# Altium footprint library Mini-Rambo_OLD.PcbLib: 52 footprints (part 3 of 4)
Each footprint in its own frame and in the unit in brackets; x right, y up, seen from the top. Pads: shape width x height; smd on the part's side, far side on the other; paste and mask are expansions set on the pad; w line width, h text height; cw(c..) or ccw(c..) is an arc to the next point about the centre after c.
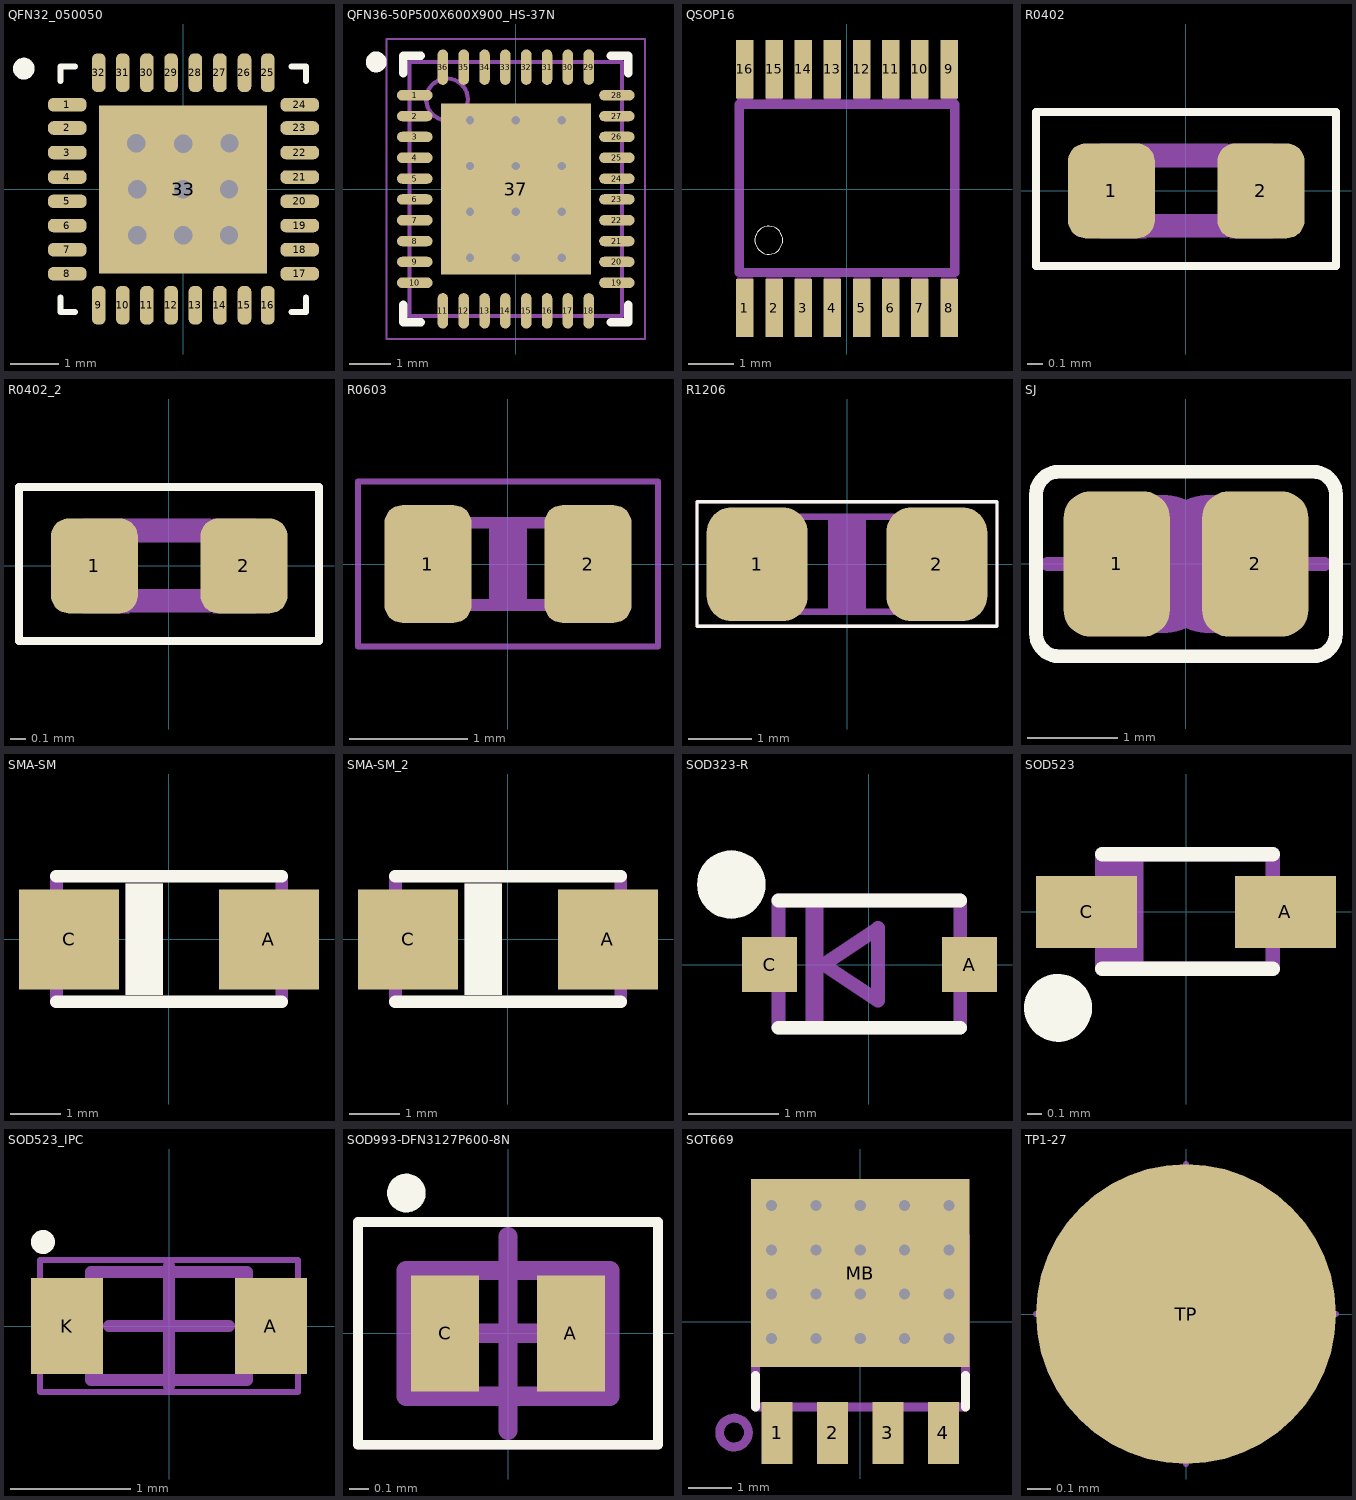
[diagram p2: the footprints below, top view; thin cyan lines are the x and y axes]

## QFN32_050050 [mm]
pads (33):
  rrect80% 0.8x0.28 smd mask+0.05: 1(-2.4,1.753) 2(-2.4,1.27) 3(-2.4,0.762) 4(-2.4,0.254) 5(-2.4,-0.25) 6(-2.4,-0.75) 7(-2.4,-1.25) 8(-2.4,-1.75) 17(2.413,-1.75) 18(2.413,-1.25) 19(2.413,-0.75) 20(2.413,-0.25) 21(2.413,0.254) 22(2.413,0.762) 23(2.413,1.27) 24(2.413,1.753)
  rrect80% 0.28x0.8 smd mask+0.05: 9(-1.75,-2.4) 10(-1.25,-2.4) 11(-0.75,-2.4) 12(-0.25,-2.4) 13(0.254,-2.4) 14(0.762,-2.4) 15(1.27,-2.4) 16(1.753,-2.4) 25(1.753,2.413) 26(1.27,2.413) 27(0.762,2.413) 28(0.254,2.413) 29(-0.25,2.413) 30(-0.75,2.413) 31(-1.25,2.413) 32(-1.75,2.413)
  rect 3.48x3.48 smd paste-4 mask-4: 33(0,0)
via 0.95,-0.95 diameter 0.762 hole 0.381
via 0,-0.95 diameter 0.762 hole 0.381
via -0.95,-0.95 diameter 0.762 hole 0.381
via -0.95,0 diameter 0.762 hole 0.381
via -0.975,0.95 diameter 0.762 hole 0.381
via 0,0.945 diameter 0.762 hole 0.381
via 0.959,0.957 diameter 0.762 hole 0.381
via 0.95,0 diameter 0.762 hole 0.381
via 0,0 diameter 0.762 hole 0.381
Top Overlay:
  circle w0.25: c-3.3,2.5 r0.1
  lines w0.127: -2.54,-2.24 -2.54,-2.54 -2.24,-2.54 ; -2.54,2.24 -2.54,2.54 -2.24,2.54 ; 2.24,-2.54 2.54,-2.54 2.54,-2.24 ; 2.24,2.54 2.54,2.54 2.54,2.24
Top Paste:
  region: -1.675,-1.675 -1.675,-1.05 -1.375,-1.05 -1.05,-1.375 -1.05,-1.675
  region: -0.125,-1.675 -0.825,-1.675 -0.825,-1.35 -0.575,-1.1 -0.35,-1.1 -0.125,-1.325
  region: -0.825,-0.575 -0.825,-0.375 -0.6,-0.15 -0.35,-0.15 -0.15,-0.35 -0.15,-0.6 -0.375,-0.825 -0.575,-0.825
  region: -1.675,-0.825 -1.675,-0.125 -1.348,-0.125 -1.1,-0.377 -1.1,-0.584 -1.337,-0.825
  region: 0.825,-1.675 0.125,-1.675 0.125,-1.348 0.377,-1.1 0.584,-1.1 0.825,-1.337
  region: 1.675,-0.125 1.675,-0.825 1.348,-0.825 1.1,-0.573 1.1,-0.366 1.337,-0.125
  region: 1.675,-1.675 1.05,-1.675 1.05,-1.375 1.375,-1.05 1.675,-1.05
  region: 0.125,-0.575 0.125,-0.375 0.35,-0.15 0.6,-0.15 0.8,-0.35 0.8,-0.6 0.575,-0.825 0.375,-0.825
  region: -0.125,0.575 -0.125,0.375 -0.35,0.15 -0.6,0.15 -0.8,0.35 -0.8,0.6 -0.575,0.825 -0.375,0.825
  region: -1.675,1.675 -1.05,1.675 -1.05,1.375 -1.375,1.05 -1.675,1.05
  region: -1.675,0.125 -1.675,0.825 -1.348,0.825 -1.1,0.573 -1.1,0.366 -1.337,0.125
  region: -0.825,1.675 -0.125,1.675 -0.125,1.348 -0.377,1.1 -0.584,1.1 -0.825,1.337
  region: 1.675,0.825 1.675,0.125 1.348,0.125 1.1,0.377 1.1,0.584 1.337,0.825
  region: 0.825,0.575 0.825,0.375 0.6,0.15 0.35,0.15 0.15,0.35 0.15,0.6 0.375,0.825 0.575,0.825
  region: 0.125,1.675 0.825,1.675 0.825,1.35 0.575,1.1 0.35,1.1 0.125,1.325
  region: 1.675,1.675 1.675,1.05 1.375,1.05 1.05,1.375 1.05,1.675
Top Solder:
  drawing of 37 lines, arcs and shapes, not listed
3D body: height 1, standoff 0, extent -2.84,-2.84 2.857,2.857

## QFN36-50P500X600X900_HS-37N [mm] "QFN, 36-Leads, Body 5.00x6.00mm, Pitch 0.50mm, Thermal Pad 3.60x4.10mm, IPC Medium Density"
height 9
pads (37):
  oval 0.85x0.25 smd: 1(-2.425,2.25) 2(-2.425,1.75) 3(-2.425,1.25) 4(-2.425,0.75) 5(-2.425,0.25) 6(-2.425,-0.25) 7(-2.425,-0.75) 8(-2.425,-1.25) 9(-2.425,-1.75) 10(-2.425,-2.25) 19(2.425,-2.25) 20(2.425,-1.75) 21(2.425,-1.25) 22(2.425,-0.75) 23(2.425,-0.25) 24(2.425,0.25) 25(2.425,0.75) 26(2.425,1.25) 27(2.425,1.75) 28(2.425,2.25)
  oval 0.25x0.85 smd: 11(-1.75,-2.925) 12(-1.25,-2.925) 13(-0.75,-2.925) 14(-0.25,-2.925) 15(0.25,-2.925) 16(0.75,-2.925) 17(1.25,-2.925) 18(1.75,-2.925) 29(1.75,2.925) 30(1.25,2.925) 31(0.75,2.925) 32(0.25,2.925) 33(-0.25,2.925) 34(-0.75,2.925) 35(-1.25,2.925) 36(-1.75,2.925)
  rect 3.6x4.1 smd: 37(0,0)
via -1.1,-0.55 diameter 0.635 hole 0.2
via -1.1,-1.65 diameter 0.635 hole 0.2
via -1.1,1.65 diameter 0.635 hole 0.2
via -1.1,0.55 diameter 0.635 hole 0.2
via 0,-1.65 diameter 0.635 hole 0.2
via 1.1,-1.65 diameter 0.635 hole 0.2
via 0,-0.55 diameter 0.635 hole 0.2
via 1.1,-0.55 diameter 0.635 hole 0.2
via 0,1.65 diameter 0.635 hole 0.2
via 0,0.55 diameter 0.635 hole 0.2
via 1.1,0.55 diameter 0.635 hole 0.2
via 1.1,1.65 diameter 0.635 hole 0.2
Top Overlay:
  circle w0.25: c-3.35,3.05 r0.125
  lines w0.2: -2.7,-2.775 -2.7,-3.2 -2.275,-3.2 ; -2.7,2.775 -2.7,3.2 -2.275,3.2 ; 2.275,-3.2 2.7,-3.2 2.7,-2.775 ; 2.275,3.2 2.7,3.2 2.7,2.775
Mechanical 13:
  circle w0.1: c-1.65,2.15 r0.5
  lines w0.1: -2.55,-3.05 -2.55,3.05 2.55,3.05 2.55,-3.05 -2.55,-3.05
Mechanical 15:
  lines w0.05: -3.1,-3.6 -3.1,3.6 3.1,3.6 3.1,-3.6 -3.1,-3.6
  lines w0.1: -0.5,0 0.5,0 ; 0,-0.5 0,0.5
3D body: height 0.9, standoff 0.05, extent -2.55,-3.05 2.55,3.05

## QSOP16 [mil]
pads (16):
  rect 15x50 smd: 1(-87.5,-102.36) 2(-62.5,-102.36) 3(-37.5,-102.36) 4(-12.5,-102.36) 5(13,-102.36) 6(38,-102.36) 7(63,-102.36) 8(88,-102.36) 9(88,103) 10(63,103) 11(38,103) 12(13,103) 13(-12.5,103) 14(-37.5,103) 15(-62.5,103) 16(-87.5,103)
Top Overlay:
  circle w0: c-67,-44 r12
Top Solder:
  rectangle: -96,-129 -79,-76
  rectangle: -94,-125 -81,-79
  rectangle: -71,-129 -54,-76
  rectangle: -69,-125 -56,-79
  rectangle: -46,-129 -29,-76
  rectangle: -44,-125 -31,-79
  rectangle: -21,-129 -4,-76
  rectangle: -19,-125 -6,-79
  rectangle: 4,-129 21,-76
  rectangle: 6,-125 19,-79
  rectangle: 29,-129 46,-76
  rectangle: 31,-125 44,-79
  rectangle: 54,-129 71,-76
  rectangle: 56,-125 69,-79
  rectangle: 79,-129 96,-76
  rectangle: 81,-125 94,-79
  region: 96,129 79,129 79,76 96,76
  region: 94,125 81,125 81,79 94,79
  region: 71,129 54,129 54,76 71,76
  region: 69,125 56,125 56,79 69,79
  region: 46,129 29,129 29,76 46,76
  region: 44,125 31,125 31,79 44,79
  region: 21,129 4,129 4,76 21,76
  region: 19,125 6,125 6,79 19,79
  region: -4,129 -21,129 -21,76 -4,76
  region: -6,125 -19,125 -19,79 -6,79
  region: -29,129 -46,129 -46,76 -29,76
  region: -31,125 -44,125 -44,79 -31,79
  region: -54,129 -71,129 -71,76 -54,76
  region: -56,125 -69,125 -69,79 -56,79
  region: -79,129 -96,129 -96,76 -79,76
  region: -81,125 -94,125 -94,79 -81,79
Mechanical 8:
  rectangle: -94.5,-122.05 -80.5,-76
  rectangle: -69.5,-122.05 -55.5,-76
  rectangle: -44.5,-122.05 -30.5,-76
  rectangle: -19.5,-122.05 -5.5,-76
  rectangle: 6,-122.05 20,-76
  rectangle: 31,-122.05 45,-76
  rectangle: 56,-122.05 70,-76
  rectangle: 81,-122.05 95,-76
  region: 95,123 81,123 81,76 95,76
  region: 70,123 56,123 56,76 70,76
  region: 45,123 31,123 31,76 45,76
  region: 20,123 6,123 6,76 20,76
  region: -5.5,123 -19.5,123 -19.5,76 -5.5,76
  region: -30.5,123 -44.5,123 -44.5,76 -30.5,76
  region: -55.5,123 -69.5,123 -69.5,76 -55.5,76
  region: -80.5,123 -94.5,123 -94.5,76 -80.5,76
  lines w8: -92.49,-71.8 93,-71.8 93,-55.12 93,73 -92.49,73 -92.49,-71.8
3D body: height 9.84, standoff 0, extent -95,75 -80,125
3D body: height 9.84, standoff 0, extent -70,75 -55,125
3D body: height 9.84, standoff 0, extent -45,75 -30,125
3D body: height 9.84, standoff 0, extent -20,75 -5,125
3D body: height 9.84, standoff 0, extent 5,75 20,125
3D body: height 9.84, standoff 0, extent 30,75 45,125
3D body: height 9.84, standoff 0, extent 55,75 70,125
3D body: height 9.84, standoff 0, extent 80,75 95,125
3D body: height 9.84, standoff 0, extent 80,-125 95,-75
3D body: height 9.84, standoff 0, extent 55,-125 70,-75
3D body: height 9.84, standoff 0, extent 30,-125 45,-75
3D body: height 9.84, standoff 0, extent 5,-125 20,-75
3D body: height 9.84, standoff 0, extent -20,-125 -5,-75
3D body: height 9.84, standoff 0, extent -45,-125 -30,-75
3D body: height 9.84, standoff 0, extent -70,-125 -55,-75
3D body: height 9.84, standoff 0, extent -95,-125 -80,-75
3D body: height 64.96, standoff 0, extent -95,-75 95,75

## R0402 [mil]
pads (2):
  rrect40% 22x24 smd: 1(-18.9,0) 2(19,0)
Top Overlay:
  lines w2: -37.99,-19.02 38,-19.02 38,20 -37.99,20 -37.99,-19.02
Mechanical 8:
  rectangle: 11,-12 22,12
  rectangle: -21.81,-12 -10,12
  lines w6: -9.65,-8.82 10,-8.82 ; -9.65,9 10,9
Mechanical 15:
  lines w2: -37.99,-19.02 -37.99,20 38,20 38,-19.02 -37.99,-19.02
3D body: height 13.78, standoff 0, extent -20,-10 20,10

## R0402_2 [mil]
pads (2):
  rrect40% 22x24 smd: 1(-18.9,0) 2(19,0)
Top Overlay:
  lines w2: -37.99,-19.02 38,-19.02 38,20 -37.99,20 -37.99,-19.02
Mechanical 8:
  rectangle: 11,-12 22,12
  rectangle: -21.81,-12 -10,12
  lines w6: -9.65,-8.82 10,-8.82 ; -9.65,9 10,9
Mechanical 15:
  lines w2: -37.99,-19.02 -37.99,20 38,20 38,-19.02 -37.99,-19.02
3D body: height 13.78, standoff 0, extent -20,-10 20,10

## R0603 [mm]
pads (2):
  rrect40% 0.74x1 smd: 1(-0.68,0) 2(0.68,0)
Mechanical 6:
  rectangle: -0.16,-0.299 0.16,0.301
Mechanical 8:
  rectangle: 0.45,-0.4 0.8,0.4
  rectangle: -0.8,-0.4 -0.45,0.4
  lines w0.1: -0.45,0.35 0.45,0.35
  lines w0.102: -0.45,-0.35 0.45,-0.35
Mechanical 15:
  lines w0.051: -1.275,-0.7 -1.275,0.7 1.275,0.7 1.275,-0.7 -1.275,-0.7
3D body: height 0.8, standoff 0, extent -0.8,-0.4 0.8,0.4

## R1206 [mil]
pads (2):
  rrect50% 63x71 smd: 1(-55.98,0) 2(56,0)
Top Overlay:
  lines w2: -93.5,-38.7 93.5,-38.7 93.5,39 -93.5,39 -93.5,-38.7
Mechanical 6:
  rectangle: -11.82,-27.56 11.99,28
Mechanical 8:
  rectangle: 31.99,-31.49 60.99,31.5
  rectangle: -61.06,-31.49 -32.06,31.5
  lines w3.94: -40.35,29.53 35.65,29.53 ; -34.66,-29.53 41.34,-29.53
Mechanical 15:
  lines w2: -93.5,-38.7 -93.5,39 93.5,39 93.5,-38.7 -93.5,-38.7
3D body: height 23.62, standoff 0, extent -61.02,-31.5 61.02,31.5

## SJ [mil]
pads (2):
  rrect50% 46x63 smd: 1(-30,0) 2(30,0)
Top Overlay:
  lines w6: -65,-30 ccw(c-55,-30) -55,-40 55,-40 ccw(c55,-30) 65,-30 65,30 ccw(c55,30) 55,40 -55,40 ccw(c-55,30) -65,30 -65,-30
Top Solder:
  rectangle: -18.7,-34.45 16.73,36
Mechanical 8:
  lines w6: -60,0 -40,0 ; 40,0 60,0
  lines w50: -10,-5 cw(c-10,0) -10,5 ; 10,-5 ccw(c10,0) 10,5
3D body: height 3.94, standoff 0, extent -53.15,-30.51 -6.89,31.5
3D body: height 3.94, standoff 0, extent 6.89,-31.5 53.15,30.51

## SMA-SM [mil]
pads (2):
  rect 79x79 smd: A(79,0) C(-78.74,0)
Top Overlay:
  rectangle: -34.06,-43.89 -4.53,44.01
  lines w10: -88.58,-49.21 89,-49.21 ; -88.58,50 89,50
Mechanical 8:
  rectangle: -34.06,-43.89 -4.53,44.01
  rectangle: -110.24,-31.48 -93.7,32.01
  rectangle: 94,-32.47 111,32.01
  lines w10: -88.58,-49.21 -88.58,50 ; 89,-49.21 89,50
3D body: height 78.74, standoff 0, extent -105,-40 105,40
3D body: height 116.14, standoff 0, extent -93.58,-54.21 94,55

## SMA-SM_2 [mil]
pads (2):
  rect 79x79 smd: A(79,0) C(-78.74,0)
Top Overlay:
  rectangle: -34.06,-43.9 -4.53,44
  lines w10: -88.58,-49.21 89,-49.21 ; -88.58,50 89,50
Mechanical 8:
  rectangle: -34.06,-43.9 -4.53,44
  rectangle: -110.24,-31.5 -93.7,32
  rectangle: 94,-32.48 111,32
  lines w10: -88.58,-49.21 -88.58,50 ; 89,-49.21 89,50
3D body: height 78.74, standoff 0, extent -105,-40 105,40
3D body: height 116.14, standoff 0, extent -93.58,-54.21 94,55

## SOD323-R [mil]
pads (3):
  rect 24x24 smd: A(44,0) C(-43.31,0)
  round 30 on Top Overlay: ""(-60,35)
Top Overlay:
  lines w6: -39.37,-27.56 40,-27.56 ; -39.37,28 40,28
Mechanical 8:
  rectangle: -27.56,-27.56 -19.69,28
  lines w6: -39.37,-27.56 40,-27.56 40,28 -39.37,28 -39.37,-27.56 ; -19.69,0 4,16 4,-15.75 -19.69,0
3D body: height 27.56, standoff 0, extent -42.37,-30.56 43,31
3D body: height 15.75, standoff 0, extent -50,-5 -35,5
3D body: height 15.75, standoff 0, extent 35,-5 50,5

## SOD523 [mil]
pads (2):
  rect 28x20 smd: A(27.56,0) C(-27.56,0)
Top Overlay:
  circle w10: c-35.43,-26.57 r4.4
  lines w4: -23.23,-15.75 24,-15.75 ; -23.23,16 24,16
Mechanical 8:
  rectangle: -29.53,-6.69 -21.26,7
  rectangle: 22,-6.69 30,7
  rectangle: -23.23,-15.75 -11.81,16
  lines w4: -23.23,-15.75 24,-15.75 24,16 -23.23,16 -23.23,-15.75
3D body: height 27.56, standoff 0, extent -23.21,-15.73 23.98,15.98
3D body: height 11.81, standoff 0, extent -29.53,-4.92 29.53,4.92

## SOD523_IPC [mm]
height 0.65
pads (2):
  rect 0.6x0.8 smd: A(0.85,0) K(-0.85,0)
Top Overlay:
  circle w0.1: c-1.05,0.7 r0.05
Mechanical 13:
  lines w0.1: -0.65,-0.45 0.65,-0.45 0.65,0.45 -0.65,0.45 -0.65,-0.45
Mechanical 15:
  lines w0.05: -1.075,-0.55 1.075,-0.55 1.075,0.55 -1.075,0.55 -1.075,-0.55
  lines w0.1: -0.5,0 0.5,0 ; 0,-0.5 0,0.5
3D body: height 0.65, standoff 0, extent -0.65,-0.45 0.65,0.45

## SOD993-DFN3127P600-8N [mm] "DSN1006-2 (SOD993)"
height 0.3
pads (2):
  rect 0.35x0.6 smd paste-0.05 mask+0.05: A(0.325,0) C(-0.325,0)
Top Overlay:
  circle w0.1: c-0.525,0.725 r0.05
  lines w0.05: -0.775,-0.575 0.775,-0.575 0.775,0.575 -0.775,0.575 -0.775,-0.575
Mechanical 13:
  lines w0.1: -0.525,-0.325 -0.525,0.325 0.525,0.325 0.525,-0.325 -0.525,-0.325
Mechanical 15:
  lines w0.05: -0.775,-0.575 -0.775,0.575 0.775,0.575 0.775,-0.575 -0.775,-0.575
  lines w0.1: -0.5,0 0.5,0 ; 0,-0.5 0,0.5
3D body: height 0.3, standoff 0, extent -0.525,-0.325 0.525,0.325

## SOT669 [mil]
pads (5):
  rect 28x56 smd: 1(-75,-100.39) 2(-25,-100.39) 3(25,-100.39) 4(75,-100.39)
  rect 197x170 smd: MB(0,44)
via 0,65 diameter 22 hole 10
via 0,105 diameter 22 hole 10
via 0,25 diameter 22 hole 10
via 0,-15 diameter 22 hole 10
via -40,-15 diameter 22 hole 10
via -80,-15 diameter 22 hole 10
via -80,25 diameter 22 hole 10
via -40,25 diameter 22 hole 10
via -40,65 diameter 22 hole 10
via -80,65 diameter 22 hole 10
via -80,105 diameter 22 hole 10
via -40,105 diameter 22 hole 10
via 40,105 diameter 22 hole 10
via 80,105 diameter 22 hole 10
via 80,65 diameter 22 hole 10
via 40,65 diameter 22 hole 10
via 40,25 diameter 22 hole 10
via 80,25 diameter 22 hole 10
via 80,-15 diameter 22 hole 10
via 40,-15 diameter 22 hole 10
Top Overlay:
  lines w8: -94.49,-76.77 -94.49,-48.23 ; 95,-76.77 95,-48.23
Top Paste:
  region: 9,-37.8 9,-32.68 13,-29.13 27,-29.13 30,-32.68 30,-37.8
  region: -29.13,-37.8 -29.13,-32.68 -25.59,-29.13 -11.42,-29.13 -7.87,-32.68 -7.87,-37.8
  region: 60,-28.74 51,-28.74 47,-33.07 47,-37.8 60,-37.8
  region: -59.45,-28.74 -49.61,-28.74 -45.28,-33.07 -45.28,-37.8 -59.45,-37.8
  region: 45,128 67,128 67,104 64,100 49,100 45,104
  region: 8,128 30,128 30,104 26,100 12,100 8,104
  region: -30.32,128 -7.87,128 -7.87,103 -11.42,100 -26.38,100 -30.32,104
  region: -68.11,128 -45.67,128 -45.67,103 -49.21,100 -64.17,100 -68.11,104
  region: 87,128 97,128 97,76 87,76
  region: -96.06,128 -85.04,128 -85.04,76 -96.06,76
Mechanical 8:
  circle w8: c-113.98,-100 r13
  rectangle: 64.08,-110.24 87.08,-85.63
  rectangle: 66.08,-122.05 85.08,-80.71
  rectangle: 14.08,-110.24 37.08,-85.63
  rectangle: 16.08,-122.05 35.08,-80.71
  rectangle: -36.73,-110.24 -13.11,-85.63
  rectangle: -34.77,-122.05 -15.08,-80.71
  rectangle: -86.73,-110.24 -63.11,-85.63
  rectangle: -84.77,-122.05 -65.08,-80.71
  lines w8: -94.49,77 -94.49,-76.77 95,-76.77 95,77
3D body: height 11.81, standoff 0, extent 65,-120 85,-75
3D body: height 11.81, standoff 0, extent 15,-120 35,-75
3D body: height 11.81, standoff 0, extent -35,-120 -15,-75
3D body: height 11.81, standoff 0, extent -85,-120 -65,-75
3D body: height 11.81, standoff 0, extent -96.06,-37.8 97,128
3D body: height 43.31, standoff 0, extent -94.47,-76.75 94.98,76.98

## TP1-27 [mil]
pads (1):
  rrect100% 50x50 smd paste-50: TP(0,0)
Mechanical 8:
  lines w1: -25,0 25,0 ; 0,-25 0,25
3D body: height 0.39, standoff 0, extent -25,-25.14 25.2,25.15